# Altium schematic symbol library led_Schlib.SchLib: 3 symbols
Pins are listed as number, name and electrical type; pins without a type are passive.

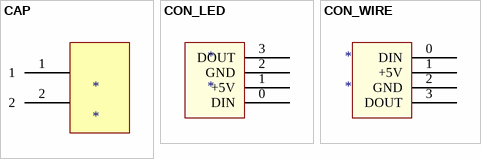
[diagram p0: symbols CAP to CON_WIRE]

## CAP
designator *
pins: 1, 2

## CON_LED
designator *
pins: 0 DIN, 1 +5V, 2 GND, 3 DOUT

## CON_WIRE
designator *
pins: 0 DIN, 1 +5V, 2 GND, 3 DOUT